# Altium integrated library logic_single_gates.IntLib: 28 symbols
Pins are listed as number, name and electrical type; pins without a type are passive.

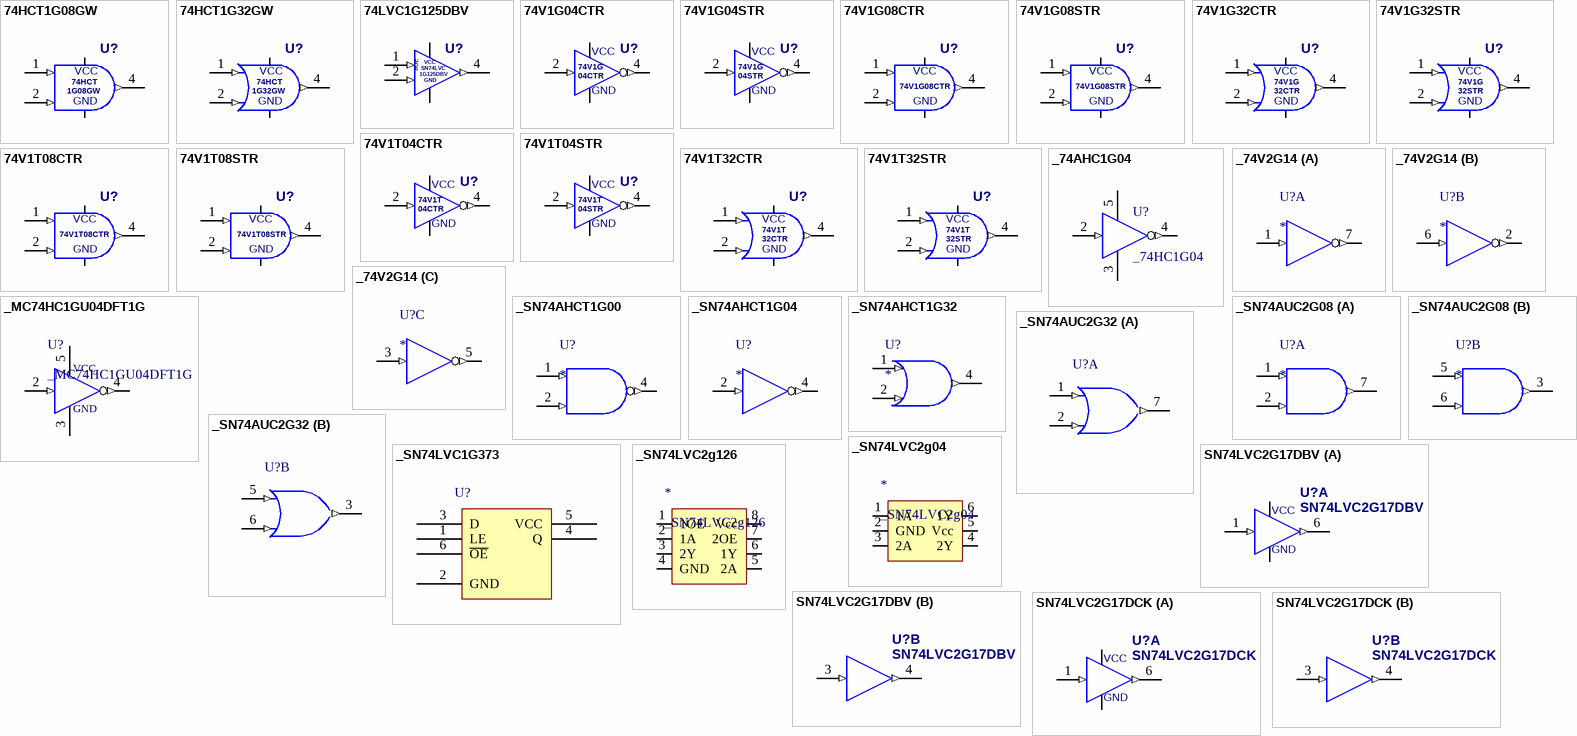
[diagram p0: symbols 74HCT1G08GW to SN74LVC2G17DCK]

## 74HCT1G08GW
designator U?  (value not drawn)
2-input AND Gate, 4,5V-5,5V, Compatible with TTL Outputs, SOT-353; ComponentLink1Description: Product Page; ComponentLink1URL: http://www.nxp.com/products/logic/gates/and_gates/series/74HC_T_1G08.html; ComponentLink2Description: Datasheet; ComponentLink2URL: http://www.nxp.com/documents/data_sheet/74HC_HCT1G08.pdf
footprint SOT-323-5 (SOT-353, SC70-5) (SOT-353/SC-88A; 5 Leads; Body 2.2 x 2.2 mm, inc. leads (LxW max))
pins: 1 A (in), 2 B (in), 3 GND (power), 4 Y (out), 5 VCC (power)
1 alternate drawing of the same symbol
text: 74HCT; 1G08GW

## 74HCT1G32GW
designator U?  (value not drawn)
2-input OR Gate, 4,5V-5,5V, Compatible with TTL Outputs, SOT-353; ComponentLink1Description: Product Page; ComponentLink1URL: http://www.nxp.com/products/logic/gates/or_gates/series/74HC_T_1G32.html; ComponentLink2Description: Datasheet; ComponentLink2URL: http://www.nxp.com/documents/data_sheet/74HC_HCT1G32.pdf
footprint SOT-323-5 (SOT-353, SC70-5) (SOT-353/SC-88A; 5 Leads; Body 2.2 x 2.2 mm, inc. leads (LxW max))
pins: 1 A (in), 2 B (in), 3 GND (power), 4 Y (out), 5 VCC (power)
1 alternate drawing of the same symbol
text: 74HCT; 1G32GW

## 74LVC1G125DBV
designator U?  (value not drawn)
Single Bus Buffer Gate With 3-State Output; ComponentLink1Description: Product Page; ComponentLink1URL: http://www.ti.com/product/sn74ahc1g32; ComponentLink2Description: Datasheet; ComponentLink2URL: http://www.ti.com/lit/ds/symlink/sn74ahc1g32.pdf
footprint SOT-23-5 (, AKA: SOT753 (NXP), TSOP5 (NXP))
pins: 1 A (in), 2 B (in), 3 GND (power), 4 Y (out), 5 VCC (power)
1 alternate drawing of the same symbol
text: SN74LVC; nOE; 1G125DBV

## 74V1G04CTR
designator U?  (value not drawn)
Single CMOS Inverter, 2V-5,5V, SOT323-5L; ComponentLink1Description: Product Page; ComponentLink1URL: http://www.st.com/internet/analog/product/62531.jsp; ComponentLink2Description: Datasheet; ComponentLink2URL: http://www.st.com/internet/com/TECHNICAL_RESOURCES/TECHNICAL_LITERATURE/DATASHEET/CD00001408.pdf
footprint SOT-323-5 (SOT-353, SC70-5) (SOT-353/SC-88A; 5 Leads; Body 2.2 x 2.2 mm, inc. leads (LxW max))
pins: 2 A (in), 3 GND (power), 4 Y (out), 5 VCC (power)
1 alternate drawing of the same symbol
text: 74V1G; 04CTR

## 74V1G04STR
designator U?  (value not drawn)
Single CMOS Inverter, 2V-5,5V, SOT23-5L; ComponentLink1Description: Product Page; ComponentLink1URL: http://www.st.com/internet/analog/product/62531.jsp; ComponentLink2Description: Datasheet; ComponentLink2URL: http://www.st.com/internet/com/TECHNICAL_RESOURCES/TECHNICAL_LITERATURE/DATASHEET/CD00001408.pdf; Supplier 1: TME; Supplier Part Number 1: 74V1G04STR
footprint SOT-23-5
pins: 2 A (in), 3 GND (power), 4 Y (out), 5 VCC (power)
1 alternate drawing of the same symbol
text: 74V1G; 04STR

## 74V1G08CTR
designator U?  (value not drawn)
2-input AND Gate, 2V-5,5V, SOT323-5L; ComponentLink1Description: Product Page; ComponentLink1URL: http://www.st.com/internet/analog/product/62534.jsp; ComponentLink2Description: Datasheet; ComponentLink2URL: http://www.st.com/internet/com/TECHNICAL_RESOURCES/TECHNICAL_LITERATURE/DATASHEET/CD00001409.pdf
footprint SOT-323-5 (SOT-353, SC70-5) (SOT-353/SC-88A; 5 Leads; Body 2.2 x 2.2 mm, inc. leads (LxW max))
pins: 1 A (in), 2 B (in), 3 GND (power), 4 Y (out), 5 VCC (power)
1 alternate drawing of the same symbol

## 74V1G08STR
designator U?  (value not drawn)
2-input AND Gate, 2V-5,5V, SOT23-5L; ComponentLink1Description: Product Page; ComponentLink1URL: http://www.st.com/internet/analog/product/62534.jsp; ComponentLink2Description: Datasheet; ComponentLink2URL: http://www.st.com/internet/com/TECHNICAL_RESOURCES/TECHNICAL_LITERATURE/DATASHEET/CD00001409.pdf
footprint SOT-23-5
pins: 1 A (in), 2 B (in), 3 GND (power), 4 Y (out), 5 VCC (power)
1 alternate drawing of the same symbol

## 74V1G32CTR
designator U?  (value not drawn)
2-input OR Gate, 2V-5,5V, SOT323-5L; ComponentLink1Description: Product Page; ComponentLink1URL: http://www.st.com/internet/analog/product/62538.jsp; ComponentLink2Description: Datasheet; ComponentLink2URL: http://www.st.com/internet/com/TECHNICAL_RESOURCES/TECHNICAL_LITERATURE/DATASHEET/CD00001413.pdf
footprint SOT-323-5 (SOT-353, SC70-5) (SOT-353/SC-88A; 5 Leads; Body 2.2 x 2.2 mm, inc. leads (LxW max))
pins: 1 A (in), 2 B (in), 3 GND (power), 4 Y (out), 5 VCC (power)
1 alternate drawing of the same symbol
text: 74V1G; 32CTR

## 74V1G32STR
designator U?  (value not drawn)
2-input OR Gate, 2V-5,5V, SOT23-5L; ComponentLink1Description: Product Page; ComponentLink1URL: http://www.st.com/internet/analog/product/62538.jsp; ComponentLink2Description: Datasheet; ComponentLink2URL: http://www.st.com/internet/com/TECHNICAL_RESOURCES/TECHNICAL_LITERATURE/DATASHEET/CD00001413.pdf
footprint SOT-23-5
pins: 1 A (in), 2 B (in), 3 GND (power), 4 Y (out), 5 VCC (power)
1 alternate drawing of the same symbol
text: 74V1G; 32STR

## 74V1T04CTR
designator U?  (value not drawn)
Single CMOS Inverter, 4,5V-5,5V, Compatible with TTL Outputs, SOT323-5L; ComponentLink1Description: Product Page; ComponentLink1URL: http://www.st.com/internet/analog/product/62550.jsp; ComponentLink2Description: Datasheet; ComponentLink2URL: http://www.st.com/internet/com/TECHNICAL_RESOURCES/TECHNICAL_LITERATURE/DATASHEET/CD00001434.pdf
footprint SOT-323-5 (SOT-353, SC70-5) (SOT-353/SC-88A; 5 Leads; Body 2.2 x 2.2 mm, inc. leads (LxW max))
pins: 2 A (in), 3 GND (power), 4 Y (out), 5 VCC (power)
1 alternate drawing of the same symbol
text: 74V1T; 04CTR

## 74V1T04STR
designator U?  (value not drawn)
Single CMOS Inverter, 4,5V-5,5V, Compatible with TTL Outputs, SOT23-5L; ComponentLink1URL: http://www.st.com/internet/analog/product/62550.jsp; ComponentLink2Description: Datasheet; ComponentLink1Description: Product Page; ComponentLink2URL: http://www.st.com/internet/com/TECHNICAL_RESOURCES/TECHNICAL_LITERATURE/DATASHEET/CD00001434.pdf
footprint SOT-23-5
pins: 2 A (in), 3 GND (power), 4 Y (out), 5 VCC (power)
1 alternate drawing of the same symbol
text: 74V1T; 04STR

## 74V1T08CTR
designator U?  (value not drawn)
2-input AND Gate, 4,5V-5,5V, Compatible with TTL Outputs, SOT323-5L; ComponentLink1Description: Product Page; ComponentLink1URL: http://www.st.com/internet/analog/product/62552.jsp; ComponentLink2Description: Datasheet; ComponentLink2URL: http://www.st.com/internet/com/TECHNICAL_RESOURCES/TECHNICAL_LITERATURE/DATASHEET/CD00001435.pdf
footprint SOT-323-5 (SOT-353, SC70-5) (SOT-353/SC-88A; 5 Leads; Body 2.2 x 2.2 mm, inc. leads (LxW max))
pins: 1 A (in), 2 B (in), 3 GND (power), 4 Y (out), 5 VCC (power)
1 alternate drawing of the same symbol

## 74V1T08STR
designator U?  (value not drawn)
2-input AND Gate, 4,5V-5,5V, Compatible with TTL Outputs, SOT23-5L; ComponentLink1Description: Product Page; ComponentLink1URL: http://www.st.com/internet/analog/product/62552.jsp; ComponentLink2Description: Datasheet; ComponentLink2URL: http://www.st.com/internet/com/TECHNICAL_RESOURCES/TECHNICAL_LITERATURE/DATASHEET/CD00001435.pdf
footprint SOT-23-5
pins: 1 A (in), 2 B (in), 3 GND (power), 4 Y (out), 5 VCC (power)
1 alternate drawing of the same symbol

## 74V1T32CTR
designator U?  (value not drawn)
2-input OR Gate, 4,5V-5,5V, Compatible with TTL Outputs, SOT323-5L; ComponentLink1Description: Product Page; ComponentLink1URL: http://www.st.com/internet/analog/product/62556.jsp; ComponentLink2Description: Datasheet; ComponentLink2URL: http://www.st.com/internet/com/TECHNICAL_RESOURCES/TECHNICAL_LITERATURE/DATASHEET/CD00001437.pdf
footprint SOT-323-5 (SOT-353, SC70-5) (SOT-353/SC-88A; 5 Leads; Body 2.2 x 2.2 mm, inc. leads (LxW max))
pins: 1 A (in), 2 B (in), 3 GND (power), 4 Y (out), 5 VCC (power)
1 alternate drawing of the same symbol
text: 74V1T; 32CTR

## 74V1T32STR
designator U?  (value not drawn)
2-input OR Gate, 4,5V-5,5V, Compatible with TTL Outputs, SOT23-5L; ComponentLink1Description: Product Page; ComponentLink1URL: http://www.st.com/internet/analog/product/62556.jsp; ComponentLink2Description: Datasheet; ComponentLink2URL: http://www.st.com/internet/com/TECHNICAL_RESOURCES/TECHNICAL_LITERATURE/DATASHEET/CD00001437.pdf
footprint SOT-23-5
pins: 1 A (in), 2 B (in), 3 GND (power), 4 Y (out), 5 VCC (power)
1 alternate drawing of the same symbol
text: 74V1T; 32STR

## _74AHC1G04
designator U?, comment _74HC1G04
Published: 23-Jan-2007; PackageReference: SOT-353
footprint SOT-23/5
footprint SOT-353 (SOT-353/SC-88A; 5 Leads; Body 2.2 x 2.2 mm, inc. leads (LxW max))
pins: 2 IN (in), 3 GND (power), 4 ~{OUT} (out), 5 VDD (power)

## _74V2G14
designator U?
Triple Schmitt Inverter
part A pins: 1 IN (in), 4 GND hidden to GND, 7 ~{OUT} (out), 8 VCC hidden to VCC
part B pins: 2 ~{OUT} (out), 6 IN (in)
part C pins: 3 IN (in), 5 ~{OUT} (out)

## _MC74HC1GU04DFT1G
designator U?
Signle CMOS Unbuffered Inverter, SOT-353
footprint SOT-353 (SOT-353/SC-88A; 5 Leads; Body 2.2 x 2.2 mm, inc. leads (LxW max))
pins: 2 IN (in), 3 GND (power), 4 ~{OUT} (out), 5 VCC (power)

## _SN74AHCT1G00
designator U?
SINGLE 2-INPUT POSITIVE-NAND GATE
footprint SOT-23/5
pins: 1 A (in), 2 B (in), 3 GND hidden to GND, 4 Y (out), 5 VCC hidden to VCC_5V

## _SN74AHCT1G04
designator U?
Single Inverter Gate
footprint SOT-23/5
pins: 1 NC hidden to NC, 2 A (in), 3 GND hidden to GND, 4 Y (out), 5 VCC hidden to VCC

## _SN74AHCT1G32
designator U?
SINGLE 2-INPUT POSITIVE-NAND GATE
footprint SOT-23/5
pins: 1 A (in), 2 B (in), 3 GND hidden to GND, 4 Y (out), 5 VCC hidden to VCC_5V

## _SN74AUC2G08
designator U?
Dual 2-Input Positive-AND Gate
part A pins: 1 A (in), 2 B (in), 4 GND hidden to GND, 7 Y (out), 8 VCC hidden to VCC
part B pins: 3 Y (out), 5 A (in), 6 B (in)

## _SN74AUC2G32
designator U?  (value not drawn)
Dual 2-Input Positive-OR Gate
part A pins: 1 A (in), 2 B (in), 4 GND hidden to GND, 7 Y (out), 8 VCC hidden to VCC
part B pins: 3 Y (out), 5 A (in), 6 B (in)

## _SN74LVC1G373
designator U?  (value not drawn)
Single D-Type Latch With 3-State Output
pins: 1 LE, 2 GND, 3 D, 4 Q, 5 VCC, 6 ~{OE}

## _SN74LVC2g04
designator *
footprint SSOP6
pins: 1 1A, 2 GND (power), 3 2A, 4 2Y, 5 Vcc (power), 6 1Y

## _SN74LVC2g126
designator *
footprint SSOP8 (Footprint not found)
pins: 1 1OE, 2 1A, 3 2Y, 4 GND (power), 5 2A, 6 1Y, 7 2OE, 8 Vcc (power)

## SN74LVC2G17DBV
designator U?
Dual Schmitt-Trigger Buffer; Supplier 1: Farnell; Supplier Part Number 1: 1651986
footprint SOT-23-6 (, AKA: SOT753 (NXP), TSOP5 (NXP))
part A pins: 1 1A (in), 2 GND (power), 5 VCC (power), 6 1Y (out)
part B pins: 3 2A (in), 4 2Y (out)

## SN74LVC2G17DCK
designator U?
Dual Schmitt-Trigger Buffer; Supplier 1: Farnell; Supplier Part Number 1: 1651986
footprint SOT-323-6 (SOT-363, SC88, SC70-6) (SOT-363; 6 Leads; Body 2.2 x 2.2 mm, inc. leads (LxW max))
part A pins: 1 1A (in), 2 GND (power), 5 VCC (power), 6 1Y (out)
part B pins: 3 2A (in), 4 2Y (out)